# Altium integrated library NSC ADC.IntLib: 207 symbols (part 7 of 7)
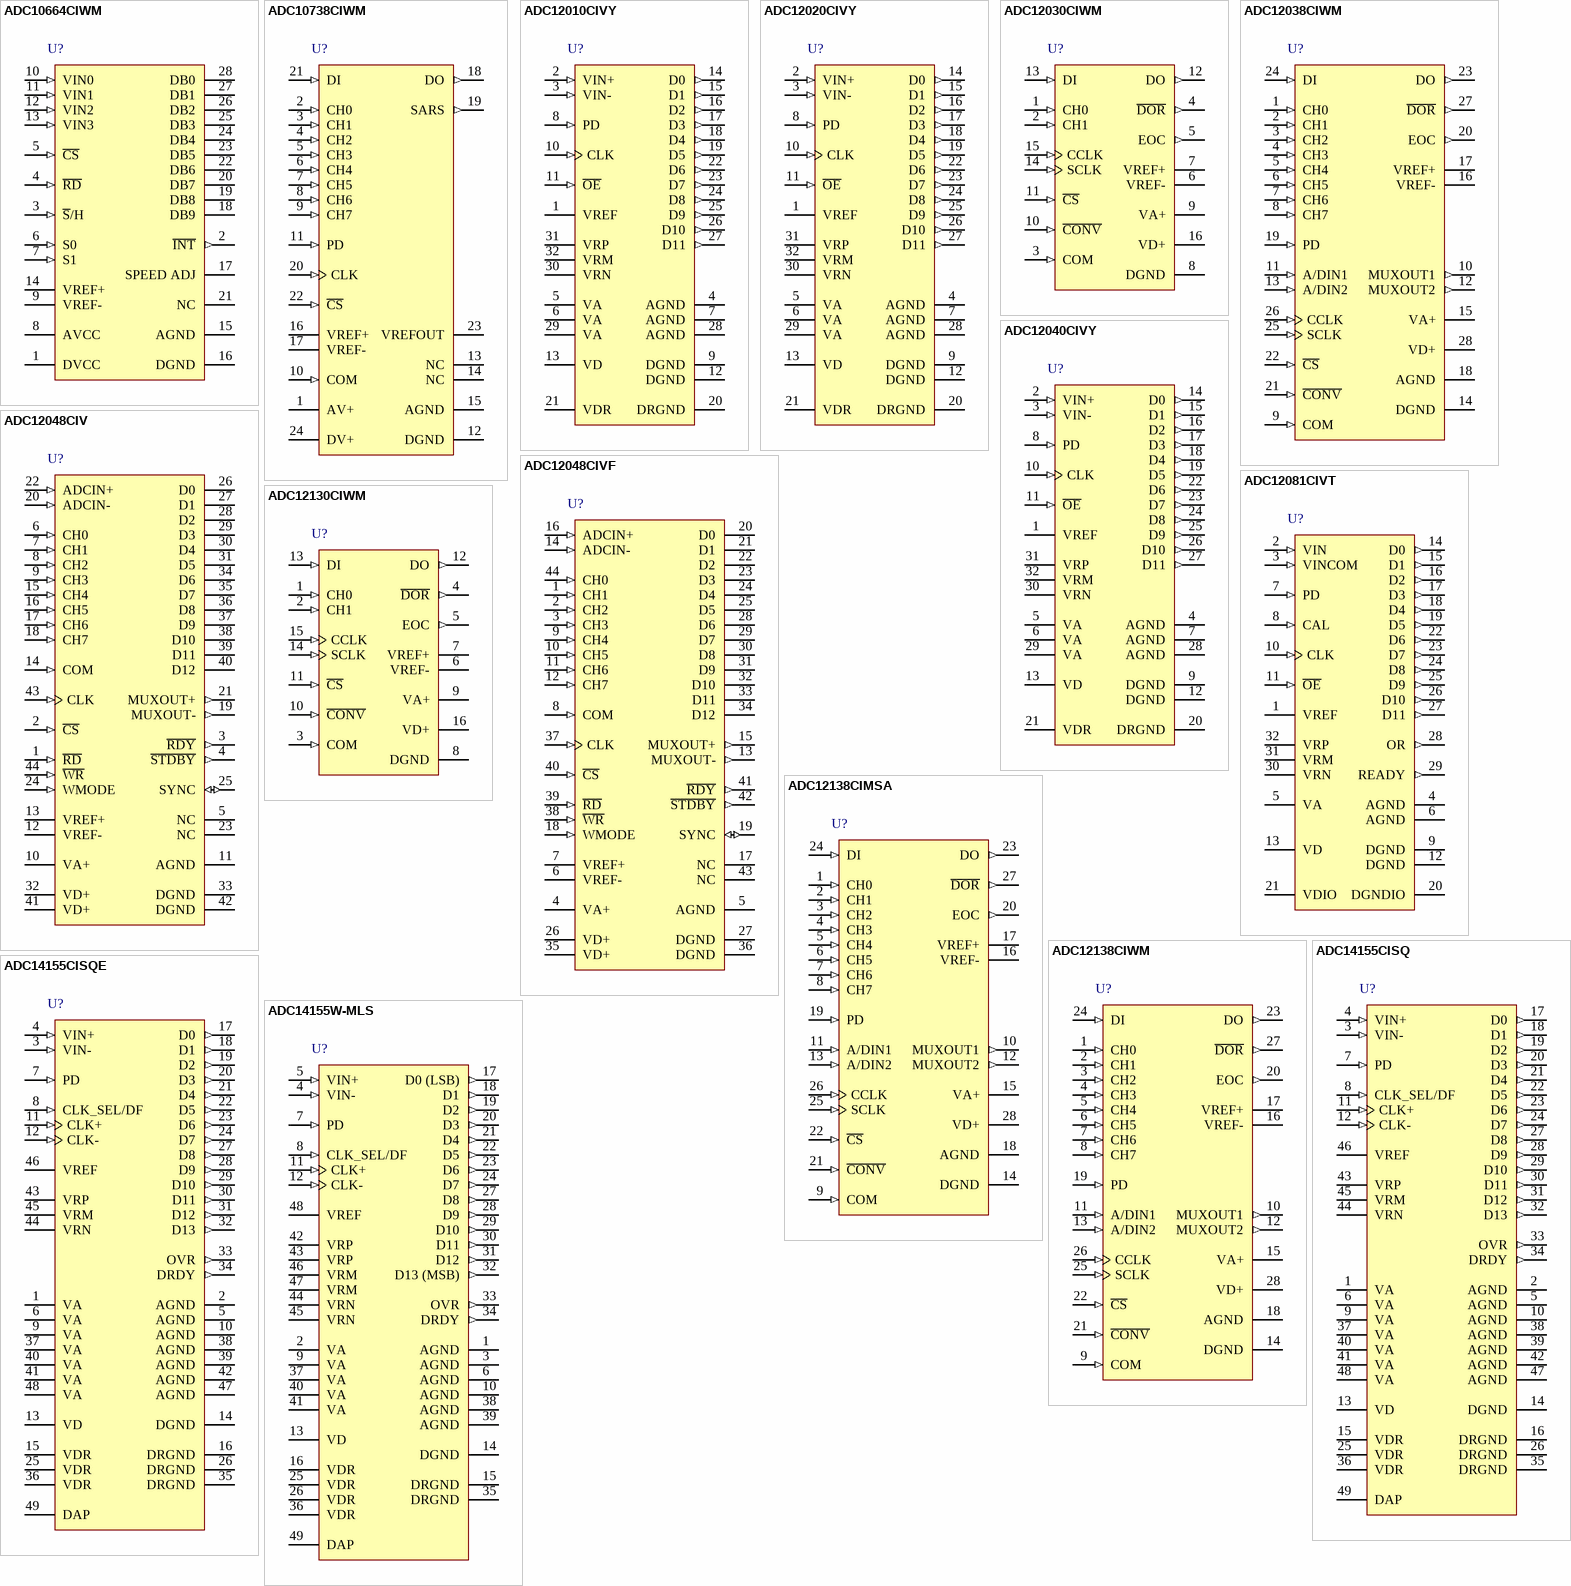
[diagram p23: symbols ADC10664CIWM to ADC14155W-MLS]

## ADC12138CIMSA
designator U?
Self-Calibrating 12-Bit Plus Sign Serial I/O A/D Converter with MUX and Sample/Hold; PartNumber: ADC12138CIMSA; Manufacturer: National Semiconductor; CompType: ADC IC; PackageTopMarking: NSUZXYTT*ADC12138*CIMSA; PowerWise: N; Published: 4-Dec-2008; DatasheetVersion: Apr-1995; PackageVersion: revB, Jan-2000; PackageReference: MSA28; Publisher: Altium Limited; PackageDescription: Molded SSOP, 5.3mm Body Width, 0.65mm Pitch, EIAJ, Type II, 28 Lead; RoHS: O; PinCount: 28; DigiKeyPartNumber: ADC12138CIMSA-ND; Code_IPC: SOP65P780-28; ComponentLink1Description: ADC12138 Datasheet; ComponentLink1URL: http://www.national.com/ds/AD/ADC12138.pdf; ComponentLink2Description: ADC12138 Web Page; ComponentLink2URL: http://www.national.com/pf/AD/ADC12138.html; ComponentLink3Description: MSA28 Package Page; ComponentLink3URL: http://www.national.com/packaging/folders/msa28.html
footprint MSA28_N (SOP, 28-Leads, Body 10.2x5.3mm, Pitch 0.65mm, IPC Medium Density)
footprint MSA28_L (SOP, 28-Leads, Body 10.2x5.3mm, Pitch 0.65mm, IPC High Density)
footprint MSA28_M (SOP, 28-Leads, Body 10.2x5.3mm, Pitch 0.65mm, IPC Low Density)
pins: 1 CH0 (in), 2 CH1 (in), 3 CH2 (in), 4 CH3 (in), 5 CH4 (in), 6 CH5 (in), 7 CH6 (in), 8 CH7 (in), 9 COM (in), 10 MUXOUT1 (out), 11 A/DIN1 (in), 12 MUXOUT2 (out), 13 A/DIN2 (in), 14 DGND (power), 15 VA+ (power), 16 VREF- (power), 17 VREF+ (power), 18 AGND (power), 19 PD (in), 20 EOC (out), 21 ~{CONV} (in), 22 ~{CS} (in), 23 DO (out), 24 DI (in), 25 SCLK (in), 26 CCLK (in), 27 ~{DOR} (out), 28 VD+ (power)

## ADC12138CIWM
designator U?
Self-Calibrating 12-Bit Plus Sign Serial I/O A/D Converter with MUX and Sample/Hold; PartNumber: ADC12138CIWM; Manufacturer: National Semiconductor; CompType: ADC IC; PackageTopMarking: NSUZXYTT*ADC12138*CIWM; PowerWise: N; Published: 4-Dec-2008; DatasheetVersion: Apr-1995; PackageVersion: revB, Nov-1997; PackageReference: M28B; Publisher: Altium Limited; PackageDescription: Molded Package, S.O., .300in Wide, 28 Lead; RoHS: O; PinCount: 28; DigiKeyPartNumber: ADC12138CIWM-ND; ComponentLink1Description: ADC12138 Datasheet; ComponentLink1URL: http://www.national.com/ds/AD/ADC12138.pdf; ComponentLink2Description: ADC12138 Web Page; ComponentLink2URL: http://www.national.com/pf/AD/ADC12138.html; ComponentLink3Description: M28B Package Page; ComponentLink3URL: http://www.national.com/packaging/folders/m28b.html
footprint M28B_N (SOIC, 28-Leads, Body 17.9x7.5mm, Pitch 1.27mm, IPC Medium Density)
footprint M28B_L (SOIC, 28-Leads, Body 17.9x7.5mm, Pitch 1.27mm, IPC High Density)
footprint M28B_M (SOIC, 28-Leads, Body 17.9x7.5mm, Pitch 1.27mm, IPC Low Density)
pins: 1 CH0 (in), 2 CH1 (in), 3 CH2 (in), 4 CH3 (in), 5 CH4 (in), 6 CH5 (in), 7 CH6 (in), 8 CH7 (in), 9 COM (in), 10 MUXOUT1 (out), 11 A/DIN1 (in), 12 MUXOUT2 (out), 13 A/DIN2 (in), 14 DGND (power), 15 VA+ (power), 16 VREF- (power), 17 VREF+ (power), 18 AGND (power), 19 PD (in), 20 EOC (out), 21 ~{CONV} (in), 22 ~{CS} (in), 23 DO (out), 24 DI (in), 25 SCLK (in), 26 CCLK (in), 27 ~{DOR} (out), 28 VD+ (power)

## ADC14155CISQ
designator U?
14-Bit, 155 MSPS, 1.1 GHz Bandwidth A/D Converter; PartNumber: ADC14155CISQ; Manufacturer: National Semiconductor; CompType: ADC IC; PackageTopMarking: NS*UZXYTT*14155SQ; PowerWise: Y; Published: 4-Dec-2008; DatasheetVersion: Jul-2006; PackageVersion: revA, May-2003; PackageReference: SQA48A; Publisher: Altium Limited; PackageDescription: LLP, Plastic, Quad, 7 x 7 x 0.8mm Body, 48 Lead, 0.5mm Pitch, No Pullback; RoHS: Y; PinCount: 48; DigiKeyPartNumber: ADC14155CISQCT-ND; Code_JEDEC: MO-220-WKKD-2; ComponentLink1Description: ADC14155 Datasheet; ComponentLink1URL: http://www.national.com/ds/AD/ADC14155.pdf; ComponentLink2Description: ADC14155 Web Page; ComponentLink2URL: http://www.national.com/pf/AD/ADC14155.html; ComponentLink3Description: SQA48A Package Page; ComponentLink3URL: http://www.national.com/packaging/folders/sqa48a.html
footprint SQA48A (QFN, 48-Leads, Body 7x7mm, Pitch 0.5mm, NSC Recommended)
pins: 1 VA (power), 2 AGND (power), 3 VIN- (in), 4 VIN+ (in), 5 AGND (power), 6 VA (power), 7 PD (in), 8 CLK_SEL/DF (in), 9 VA (power), 10 AGND (power), 11 CLK+ (in), 12 CLK- (in), 13 VD (power), 14 DGND (power), 15 VDR (power), 16 DRGND (power), 17 D0 (out), 18 D1 (out), 19 D2 (out), 20 D3 (out), 21 D4 (out), 22 D5 (out), 23 D6 (out), 24 D7 (out), 25 VDR (power), 26 DRGND (power), 27 D8 (out), 28 D9 (out), 29 D10 (out), 30 D11 (out), 31 D12 (out), 32 D13 (out), 33 OVR (out), 34 DRDY (out), 35 DRGND (power), 36 VDR (power), 37 VA (power), 38 AGND (power), 39 AGND (power), 40 VA (power), 41 VA (power), 42 AGND (power), 43 VRP, 44 VRN, 45 VRM, 46 VREF (power), 47 AGND (power), 48 VA (power), 49 DAP (power)

## ADC14155CISQE
designator U?
14-Bit, 155 MSPS, 1.1 GHz Bandwidth A/D Converter; PartNumber: ADC14155CISQE; Manufacturer: National Semiconductor; CompType: ADC IC; PackageTopMarking: NS*UZXYTT*14155SQE; Published: 4-Dec-2008; DatasheetVersion: Aug-2007; PackageVersion: revA, May-2003; PackageReference: SQA48A; Publisher: Altium Limited; PackageDescription: LLP, Plastic, Quad, 7 x 7 x 0.8mm Body, 48 Lead, 0.5mm Pitch, No Pullback; RoHS: N; PinCount: 48; Code_JEDEC: MO-220-WKKD-2; ComponentLink1Description: ADC14155 Datasheet; ComponentLink1URL: http://www.national.com/ds/AD/ADC14155.pdf; ComponentLink2Description: ADC14155 Web Page; ComponentLink2URL: http://www.national.com/pf/AD/ADC14155.html; ComponentLink3Description: SQA48A Package Page; ComponentLink3URL: http://www.national.com/packaging/folders/sqa48a.html
footprint SQA48A (QFN, 48-Leads, Body 7x7mm, Pitch 0.5mm, NSC Recommended)
pins: 1 VA (power), 2 AGND (power), 3 VIN- (in), 4 VIN+ (in), 5 AGND (power), 6 VA (power), 7 PD (in), 8 CLK_SEL/DF (in), 9 VA (power), 10 AGND (power), 11 CLK+ (in), 12 CLK- (in), 13 VD (power), 14 DGND (power), 15 VDR (power), 16 DRGND (power), 17 D0 (out), 18 D1 (out), 19 D2 (out), 20 D3 (out), 21 D4 (out), 22 D5 (out), 23 D6 (out), 24 D7 (out), 25 VDR (power), 26 DRGND (power), 27 D8 (out), 28 D9 (out), 29 D10 (out), 30 D11 (out), 31 D12 (out), 32 D13 (out), 33 OVR (out), 34 DRDY (out), 35 DRGND (power), 36 VDR (power), 37 VA (power), 38 AGND (power), 39 AGND (power), 40 VA (power), 41 VA (power), 42 AGND (power), 43 VRP, 44 VRN, 45 VRM, 46 VREF (power), 47 AGND (power), 48 VA (power), 49 DAP (power)

## ADC14155W-MLS
designator U?
14-Bit, 155 MSPS, 1.1 GHz Bandwidth A/D Converter; PartNumber: ADC14155W-MLS; Manufacturer: National Semiconductor; CompType: ADC IC; PackageTopMarking: NSZSSXXYYA*ADC14155W*-MLS; PowerWise: N; MilaeroCode: EXX; Published: 29-May-2009; DatasheetVersion: Nov-2008; PackageVersion: revB, Apr-2007; PackageReference: EL48A; Publisher: Altium Limited; PackageDescription: CQFP, 11.5 x 11.5 x 2.64mm, 48 Lead, 0.635mm Pitch; RoHS: N; PinCount: 48; ComponentLink1Description: ADC14155 Datasheet; ComponentLink1URL: http://www.national.com/ds/AD/ADC14155QML.pdf; ComponentLink2Description: ADC14155 Web Page; ComponentLink2URL: http://www.national.com/pf/AD/ADC14155.html; ComponentLink3Description: EL48A Package Page; ComponentLink3URL: http://www.national.com/packaging/folders/el48a.html
footprint EL48A_N (CQFP, 48-Leads, Body 11.5x11.5mm; Pitch 0.635mm, Gullwing Leadform, Exposed Pad, IPC Medium Density)
footprint EL48A_L (CQFP, 48-Leads, Body 11.5x11.5mm; Pitch 0.635mm, Gullwing Leadform, Exposed Pad, IPC High Density)
footprint EL48A_M (CQFP, 48-Leads, Body 11.5x11.5mm; Pitch 0.635mm, Gullwing Leadform, Exposed Pad, IPC Low Density)
pins: 1 AGND (power), 2 VA (power), 3 AGND (power), 4 VIN- (in), 5 VIN+ (in), 6 AGND (power), 7 PD (in), 8 CLK_SEL/DF (in), 9 VA (power), 10 AGND (power), 11 CLK+ (in), 12 CLK- (in), 13 VD (power), 14 DGND (power), 15 DRGND (power), 16 VDR (power), 17 D0 (LSB) (out), 18 D1 (out), 19 D2 (out), 20 D3 (out), 21 D4 (out), 22 D5 (out), 23 D6 (out), 24 D7 (out), 25 VDR (power), 26 VDR (power), 27 D8 (out), 28 D9 (out), 29 D10 (out), 30 D11 (out), 31 D12 (out), 32 D13 (MSB) (out), 33 OVR (out), 34 DRDY (out), 35 DRGND (power), 36 VDR (power), 37 VA (power), 38 AGND (power), 39 AGND (power), 40 VA (power), 41 VA (power), 42 VRP (power), 43 VRP, 44 VRN, 45 VRN, 46 VRM (power), 47 VRM (power), 48 VREF (power), 49 DAP (power)

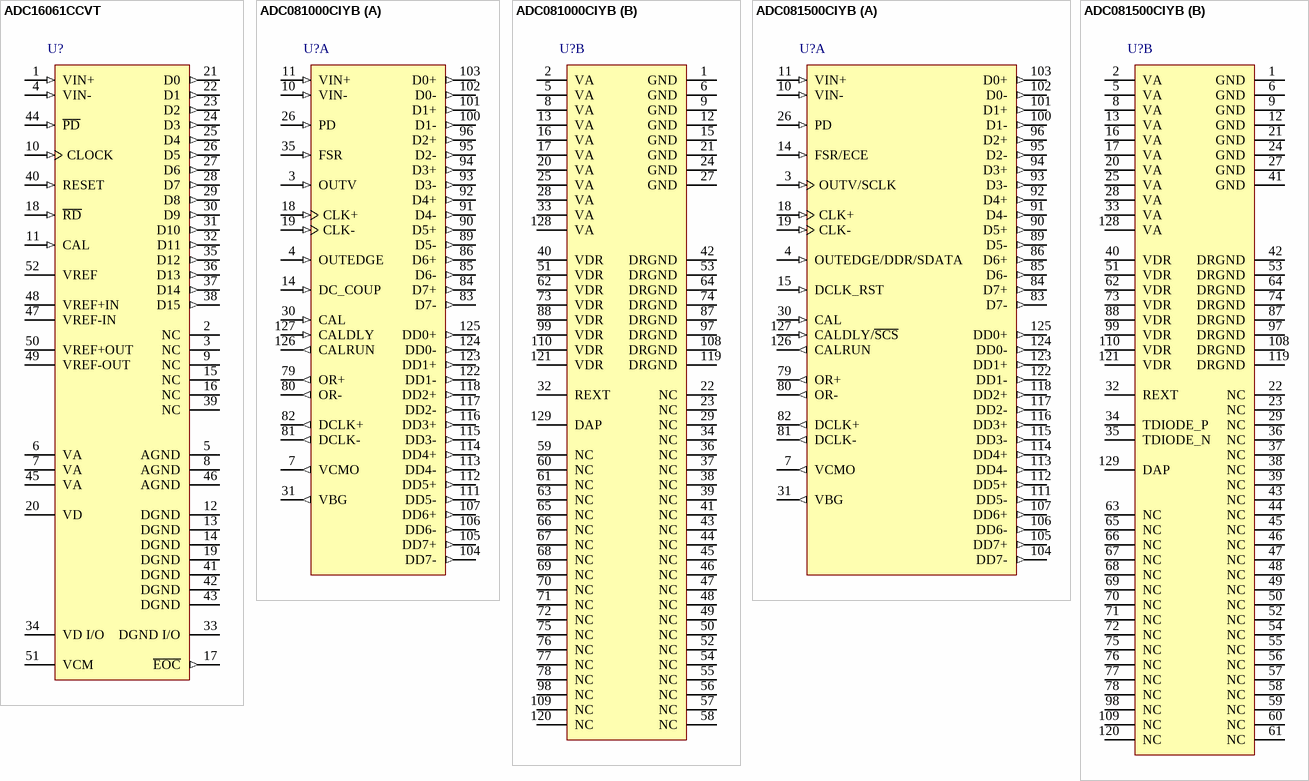
[diagram p14: symbols ADC16061CCVT to ADC081500CIYB]

## ADC16061CCVT
designator U?
Self-Calibrating 16-Bit, 2.5 MSPS, 390 mW A/D Converter; PartNumber: ADC16061CCVT; Manufacturer: National Semiconductor; CompType: ADC IC; PackageTopMarking: NSUZXYYTT*ADC16061*CCVT; PowerWise: N; Published: 4-Dec-2008; DatasheetVersion: Feb-2004; PackageVersion: revB, Dec-1999; PackageReference: VEG52A; Publisher: Altium Limited; PackageDescription: LQFP, Jedec, Metric, 10 x 10 x 1.4mm, 52 Lead; RoHS: Y; PinCount: 52; DigiKeyPartNumber: ADC16061CCVT-ND; Code_JEDEC: MS-026-BCC; ComponentLink1Description: ADC16061 Datasheet; ComponentLink1URL: http://www.national.com/ds/AD/ADC16061.pdf; ComponentLink2Description: ADC16061 Web Page; ComponentLink2URL: http://www.national.com/pf/AD/ADC16061.html; ComponentLink3Description: VEG52A Package Page; ComponentLink3URL: http://www.national.com/packaging/folders/veg52a.html
footprint VEG52A_N (Thin QFP, 52-Leads, Body 10 x 10mm, Pitch 0.65mm, IPC Medium Density)
footprint VEG52A_L (Thin QFP, 52-Leads, Body 10 x 10mm, Pitch 0.65mm, IPC High Density)
footprint VEG52A_M (Thin QFP, 52-Leads, Body 10 x 10mm, Pitch 0.65mm, IPC Low Density)
pins: 1 VIN+ (in), 2 NC, 3 NC, 4 VIN- (in), 5 AGND (power), 6 VA (power), 7 VA (power), 8 AGND (power), 9 NC, 10 CLOCK (in), 11 CAL (in), 12 DGND (power), 13 DGND (power), 14 DGND (power), 15 NC, 16 NC, 17 ~{EOC} (out), 18 ~{RD} (in), 19 DGND (power), 20 VD (power), 21 D0 (out), 22 D1 (out), 23 D2 (out), 24 D3 (out), 25 D4 (out), 26 D5 (out), 27 D6 (out), 28 D7 (out), 29 D8 (out), 30 D9 (out), 31 D10 (out), 32 D11 (out), 33 DGND I/O (power), 34 VD I/O (power), 35 D12 (out), 36 D13 (out), 37 D14 (out), 38 D15 (out), 39 NC, 40 RESET (in), 41 DGND (power), 42 DGND (power), 43 DGND (power), 44 ~{PD} (in), 45 VA (power), 46 AGND (power), 47 VREF-IN (power), 48 VREF+IN (power), 49 VREF-OUT (power), 50 VREF+OUT (power), 51 VCM (power), 52 VREF (power)

## ADC081000CIYB
designator U?
High Performance, Low Power 8-Bit, 1 GSPS A/D Converter; PartNumber: ADC081000CIYB; Manufacturer: National Semiconductor; CompType: ADC IC; PackageTopMarking: NSUZXYYTTE#*ADC081000*CIYB; PowerWise: Y; Published: 4-Dec-2008; DatasheetVersion: Jun-2004; PackageVersion: revB, Aug-2006; PackageReference: VNX128A; Publisher: Altium Limited; PackageDescription: LQFP, 20 x 20 x 1.4mm, 128 Lead, 0.5mm Pitch, Exposed Pad; RoHS: O; PinCount: 128; DigiKeyPartNumber: ADC081000CIYB-ND; Code_JEDEC: MS-026-BFB; ComponentLink1Description: ADC081000 Datasheet; ComponentLink1URL: http://www.national.com/ds/AD/ADC081000.pdf; ComponentLink2Description: ADC081000 Web Page; ComponentLink2URL: http://www.national.com/pf/AD/ADC081000.html; ComponentLink3Description: VNX128A Package Page; ComponentLink3URL: http://www.national.com/packaging/folders/vnx128a.html
footprint VNX128A_N (Thin QFP, 128-Leads, Body 20x20mm, Pitch 0.5mm, Exposed Pad, IPC Medium Density)
footprint VNX128A_L (Thin QFP, 128-Leads, Body 20x20mm, Pitch 0.5mm, Exposed Pad, IPC High Density)
footprint VNX128A_M (Thin QFP, 128-Leads, Body 20x20mm, Pitch 0.5mm, Exposed Pad, IPC Low Density)
part A pins: 3 OUTV (in), 4 OUTEDGE (in), 7 VCMO (out), 10 VIN- (in), 11 VIN+ (in), 14 DC_COUP (in), 18 CLK+ (in), 19 CLK- (in), 26 PD (in), 30 CAL (in), 31 VBG (out), 35 FSR (in), 79 OR+ (out), 80 OR- (out), 81 DCLK- (out), 82 DCLK+ (out), 83 D7- (out), 84 D7+ (out), 85 D6- (out), 86 D6+ (out), 89 D5- (out), 90 D5+ (out), 91 D4- (out), 92 D4+ (out), 93 D3- (out), 94 D3+ (out), 95 D2- (out), 96 D2+ (out), 100 D1- (out), 101 D1+ (out), 102 D0- (out), 103 D0+ (out), 104 DD7- (out), 105 DD7+ (out), 106 DD6- (out), 107 DD6+ (out), 111 DD5- (out), 112 DD5+ (out), 113 DD4- (out), 114 DD4+ (out), 115 DD3- (out), 116 DD3+ (out), 117 DD2- (out), 118 DD2+ (out), 122 DD1- (out), 123 DD1+ (out), 124 DD0- (out), 125 DD0+ (out), 126 CALRUN (out), 127 CALDLY (in)
part B pins: 1 GND (power), 2 VA (power), 5 VA (power), 6 GND (power), 8 VA (power), 9 GND (power), 12 GND (power), 13 VA (power), 15 GND (power), 16 VA (power), 17 VA (power), 20 VA (power), 21 GND (power), 22 NC, 23 NC, 24 GND (power), 25 VA (power), 27 GND (power), 28 VA (power), 29 NC, 32 REXT, 33 VA (power), 34 NC, 36 NC, 37 NC, 38 NC, 39 NC, 40 VDR (power), 41 NC, 42 DRGND (power), 43 NC, 44 NC, 45 NC, 46 NC, 47 NC, 48 NC, 49 NC, 50 NC, 51 VDR (power), 52 NC, 53 DRGND (power), 54 NC, 55 NC, 56 NC, 57 NC, 58 NC, 59 NC, 60 NC, 61 NC, 62 VDR (power), 63 NC, 64 DRGND (power), 65 NC, 66 NC, 67 NC, 68 NC, 69 NC, 70 NC, 71 NC, 72 NC, 73 VDR (power), 74 DRGND (power), 75 NC, 76 NC, 77 NC, 78 NC, 87 DRGND (power), 88 VDR (power), 97 DRGND (power), 98 NC, 99 VDR (power), 108 DRGND (power), 109 NC, 110 VDR (power), 119 DRGND (power), 120 NC, 121 VDR (power), 128 VA (power), 129 DAP (power)

## ADC081500CIYB
designator U?
High Performance, Low Power, 8-Bit, 1.5 GSPS A/D Converter; PartNumber: ADC081500CIYB; Manufacturer: National Semiconductor; CompType: ADC IC; PackageTopMarking: NSUZXYYTTE#*ADC081500*CIYB; PowerWise: Y; Published: 4-Dec-2008; DatasheetVersion: Sep-2005; PackageVersion: revB, Aug-2006; PackageReference: VNX128A; Publisher: Altium Limited; PackageDescription: LQFP, 20 x 20 x 1.4mm, 128 Lead, 0.5mm Pitch, Exposed Pad; RoHS: O; PinCount: 128; DigiKeyPartNumber: ADC081500CIYB-ND; Code_JEDEC: MS-026-BFB; ComponentLink1Description: ADC081500 Datasheet; ComponentLink1URL: http://www.national.com/ds/AD/ADC081500.pdf; ComponentLink2Description: ADC081500 Web Page; ComponentLink2URL: http://www.national.com/pf/AD/ADC081500.html; ComponentLink3Description: VNX128A Package Page; ComponentLink3URL: http://www.national.com/packaging/folders/vnx128a.html
footprint VNX128A_N (Thin QFP, 128-Leads, Body 20x20mm, Pitch 0.5mm, Exposed Pad, IPC Medium Density)
footprint VNX128A_L (Thin QFP, 128-Leads, Body 20x20mm, Pitch 0.5mm, Exposed Pad, IPC High Density)
footprint VNX128A_M (Thin QFP, 128-Leads, Body 20x20mm, Pitch 0.5mm, Exposed Pad, IPC Low Density)
part A pins: 3 OUTV/SCLK (in), 4 OUTEDGE/DDR/SDATA (in), 7 VCMO (out), 10 VIN- (in), 11 VIN+ (in), 14 FSR/ECE (in), 15 DCLK_RST (in), 18 CLK+ (in), 19 CLK- (in), 26 PD (in), 30 CAL (in), 31 VBG (out), 79 OR+ (out), 80 OR- (out), 81 DCLK- (out), 82 DCLK+ (out), 83 D7- (out), 84 D7+ (out), 85 D6- (out), 86 D6+ (out), 89 D5- (out), 90 D5+ (out), 91 D4- (out), 92 D4+ (out), 93 D3- (out), 94 D3+ (out), 95 D2- (out), 96 D2+ (out), 100 D1- (out), 101 D1+ (out), 102 D0- (out), 103 D0+ (out), 104 DD7- (out), 105 DD7+ (out), 106 DD6- (out), 107 DD6+ (out), 111 DD5- (out), 112 DD5+ (out), 113 DD4- (out), 114 DD4+ (out), 115 DD3- (out), 116 DD3+ (out), 117 DD2- (out), 118 DD2+ (out), 122 DD1- (out), 123 DD1+ (out), 124 DD0- (out), 125 DD0+ (out), 126 CALRUN (out), 127 CALDLY/~{SCS} (in)
part B pins: 1 GND (power), 2 VA (power), 5 VA (power), 6 GND (power), 8 VA (power), 9 GND (power), 12 GND (power), 13 VA (power), 16 VA (power), 17 VA (power), 20 VA (power), 21 GND (power), 22 NC, 23 NC, 24 GND (power), 25 VA (power), 27 GND (power), 28 VA (power), 29 NC, 32 REXT, 33 VA (power), 34 TDIODE_P, 35 TDIODE_N, 36 NC, 37 NC, 38 NC, 39 NC, 40 VDR (power), 41 GND (power), 42 DRGND (power), 43 NC, 44 NC, 45 NC, 46 NC, 47 NC, 48 NC, 49 NC, 50 NC, 51 VDR (power), 52 NC, 53 DRGND (power), 54 NC, 55 NC, 56 NC, 57 NC, 58 NC, 59 NC, 60 NC, 61 NC, 62 VDR (power), 63 NC, 64 DRGND (power), 65 NC, 66 NC, 67 NC, 68 NC, 69 NC, 70 NC, 71 NC, 72 NC, 73 VDR (power), 74 DRGND (power), 75 NC, 76 NC, 77 NC, 78 NC, 87 DRGND (power), 88 VDR (power), 97 DRGND (power), 98 NC, 99 VDR (power), 108 DRGND (power), 109 NC, 110 VDR (power), 119 DRGND (power), 120 NC, 121 VDR (power), 128 VA (power), 129 DAP (power)

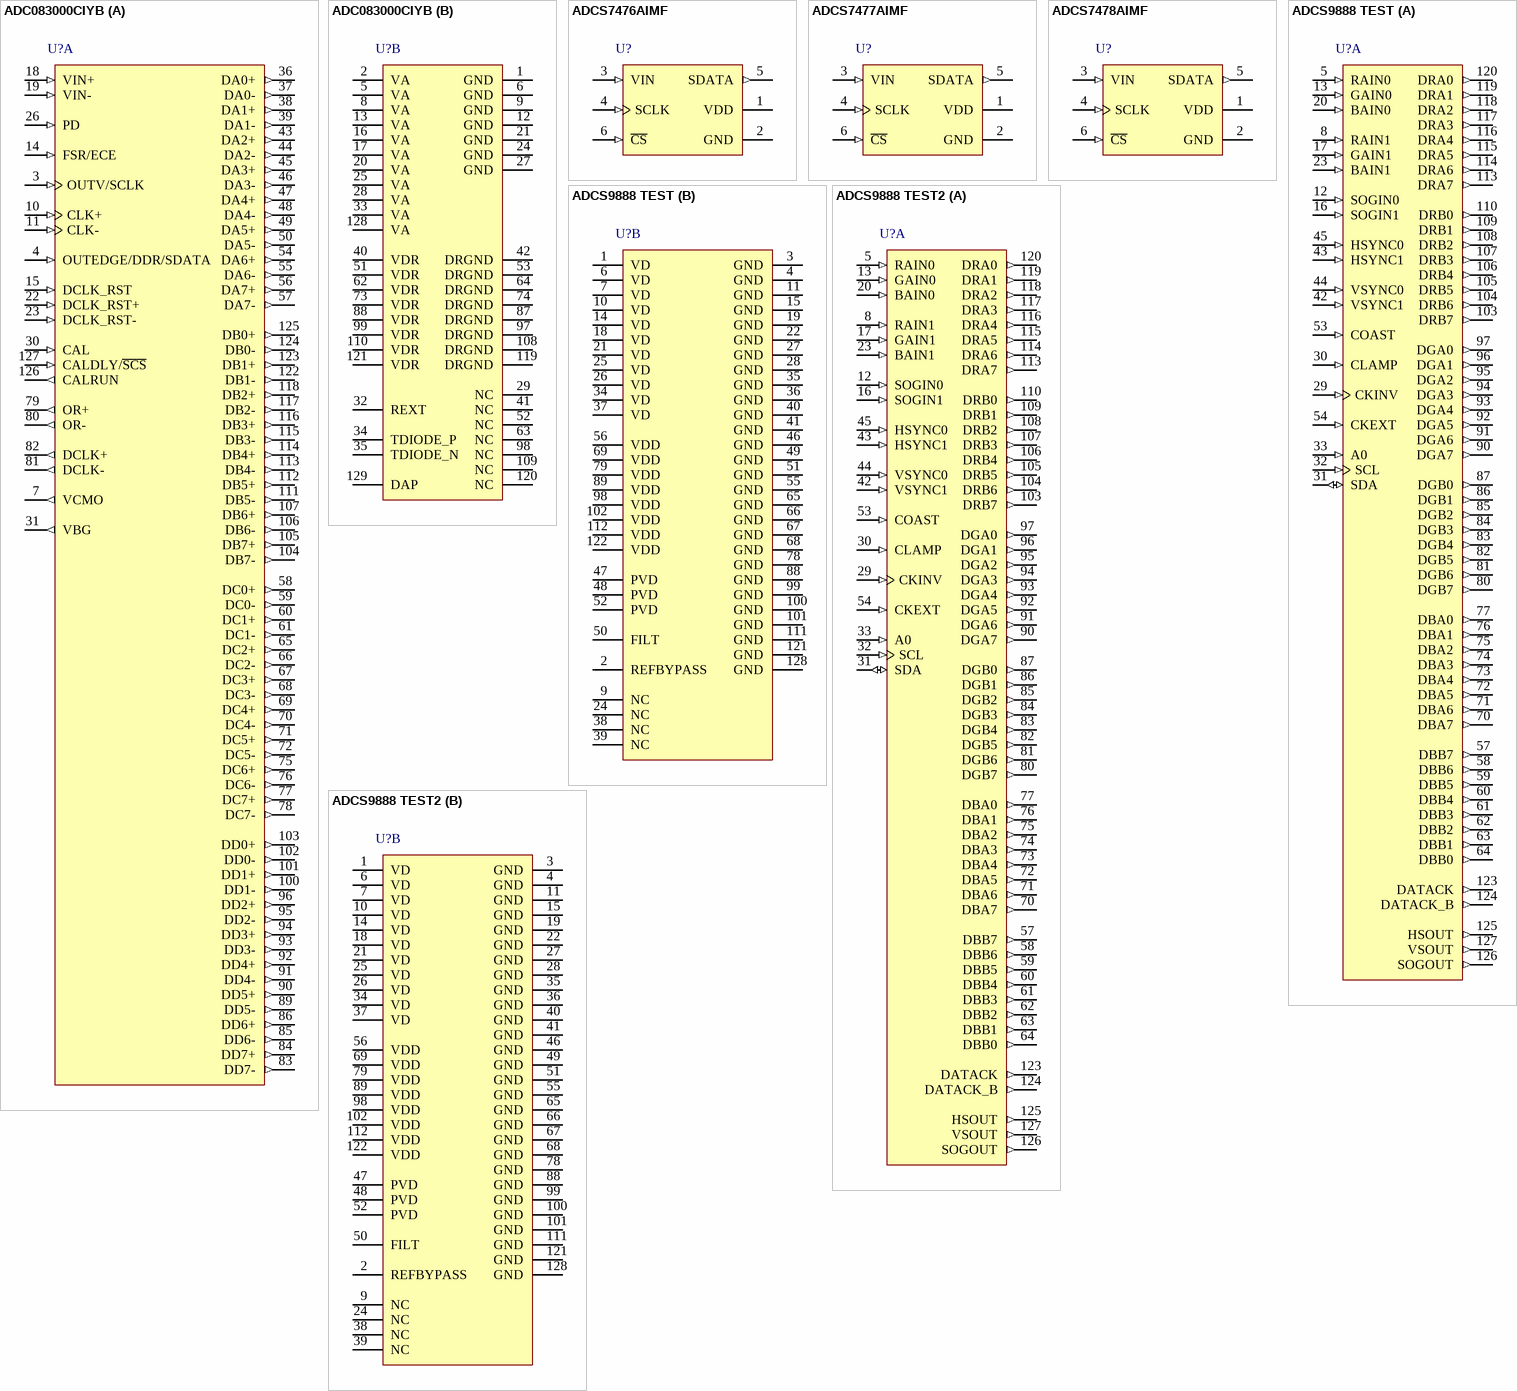
[diagram p15: symbols ADC083000CIYB to ADCS9888 TEST2]

## ADC083000CIYB
designator U?
8-Bit, 3 GSPS, High Performance, Low Power A/D Converter; PartNumber: ADC083000CIYB; Manufacturer: National Semiconductor; CompType: ADC IC; PackageTopMarking: NSUZXYYTTE#*ADC083000CIYB; PowerWise: Y; Published: 4-Dec-2008; DatasheetVersion: Jun-2007; PackageVersion: revB, Aug-2006; PackageReference: VNX128A; Publisher: Altium Limited; PackageDescription: LQFP, 20 x 20 x 1.4mm, 128 Lead, 0.5mm Pitch, Exposed Pad; RoHS: O; PinCount: 128; DigiKeyPartNumber: ADC083000CIYB-ND; Code_JEDEC: MS-026-BFB; ComponentLink1Description: ADC083000 Datasheet; ComponentLink1URL: http://www.national.com/ds/AD/ADC083000.pdf; ComponentLink2Description: ADC083000 Web Page; ComponentLink2URL: http://www.national.com/pf/AD/ADC083000.html; ComponentLink3Description: VNX128A Package Page; ComponentLink3URL: http://www.national.com/packaging/folders/vnx128a.html
footprint VNX128A_N (Thin QFP, 128-Leads, Body 20x20mm, Pitch 0.5mm, Exposed Pad, IPC Medium Density)
footprint VNX128A_L (Thin QFP, 128-Leads, Body 20x20mm, Pitch 0.5mm, Exposed Pad, IPC High Density)
footprint VNX128A_M (Thin QFP, 128-Leads, Body 20x20mm, Pitch 0.5mm, Exposed Pad, IPC Low Density)
part A pins: 3 OUTV/SCLK (in), 4 OUTEDGE/DDR/SDATA (in), 7 VCMO (out), 10 CLK+ (in), 11 CLK- (in), 14 FSR/ECE (in), 15 DCLK_RST (in), 18 VIN+ (in), 19 VIN- (in), 22 DCLK_RST+ (in), 23 DCLK_RST- (in), 26 PD (in), 30 CAL (in), 31 VBG (out), 36 DA0+ (out), 37 DA0- (out), 38 DA1+ (out), 39 DA1- (out), 43 DA2+ (out), 44 DA2- (out), 45 DA3+ (out), 46 DA3- (out), 47 DA4+ (out), 48 DA4- (out), 49 DA5+ (out), 50 DA5- (out), 54 DA6+ (out), 55 DA6- (out), 56 DA7+ (out), 57 DA7- (out), 58 DC0+ (out), 59 DC0- (out), 60 DC1+ (out), 61 DC1- (out), 65 DC2+ (out), 66 DC2- (out), 67 DC3+ (out), 68 DC3- (out), 69 DC4+ (out), 70 DC4- (out), 71 DC5+ (out), 72 DC5- (out), 75 DC6+ (out), 76 DC6- (out), 77 DC7+ (out), 78 DC7- (out), 79 OR+ (out), 80 OR- (out), 81 DCLK- (out), 82 DCLK+ (out), 83 DD7- (out), 84 DD7+ (out), 85 DD6- (out), 86 DD6+ (out), 89 DD5- (out), 90 DD5+ (out), 91 DD4- (out), 92 DD4+ (out), 93 DD3- (out), 94 DD3+ (out), 95 DD2- (out), 96 DD2+ (out), 100 DD1- (out), 101 DD1+ (out), 102 DD0- (out), 103 DD0+ (out), 104 DB7- (out), 105 DB7+ (out), 106 DB6- (out), 107 DB6+ (out), 111 DB5- (out), 112 DB5+ (out), 113 DB4- (out), 114 DB4+ (out), 115 DB3- (out), 116 DB3+ (out), 117 DB2- (out), 118 DB2+ (out), 122 DB1- (out), 123 DB1+ (out), 124 DB0- (out), 125 DB0+ (out), 126 CALRUN (out), 127 CALDLY/~{SCS} (in)
part B pins: 1 GND (power), 2 VA (power), 5 VA (power), 6 GND (power), 8 VA (power), 9 GND (power), 12 GND (power), 13 VA (power), 16 VA (power), 17 VA (power), 20 VA (power), 21 GND (power), 24 GND (power), 25 VA (power), 27 GND (power), 28 VA (power), 29 NC, 32 REXT, 33 VA (power), 34 TDIODE_P, 35 TDIODE_N, 40 VDR (power), 41 NC, 42 DRGND (power), 51 VDR (power), 52 NC, 53 DRGND (power), 62 VDR (power), 63 NC, 64 DRGND (power), 73 VDR (power), 74 DRGND (power), 87 DRGND (power), 88 VDR (power), 97 DRGND (power), 98 NC, 99 VDR (power), 108 DRGND (power), 109 NC, 110 VDR (power), 119 DRGND (power), 120 NC, 121 VDR (power), 128 VA (power), 129 DAP (power)

## ADCS7476AIMF
designator U?
1MSPS, 12-/10-/8-Bit A/D Converters in SOT-23 & LLP; PartNumber: ADCS7476AIMF; Manufacturer: National Semiconductor; CompType: ADC IC; PackageTopMarking: X01A*XTT; PowerWise: N; Published: 4-Dec-2008; DatasheetVersion: Apr-2003; PackageVersion: revC, Sep-2005; PackageReference: MF06A; Publisher: Altium Limited; PackageDescription: Molded SOT-23, .115 x .063 x .040in Body, 6 Lead, .0375in in Pitch; RoHS: O; PinCount: 6; DigiKeyPartNumber: ADCS7476AIMFCT-ND; Code_JEDEC: MO-178-AB; Code_IPC: SOT26A-6; ComponentLink1Description: ADCS7476 Datasheet; ComponentLink1URL: http://www.national.com/ds/AD/ADCS7476.pdf; ComponentLink2Description: ADCS7476 Web Page; ComponentLink2URL: http://www.national.com/pf/AD/ADCS7476.html; ComponentLink3Description: MF06A Package Page; ComponentLink3URL: http://www.national.com/packaging/folders/mf06a.html
footprint MF06A_N (SOT23, 6-Leads, Body 2.9x1.6mm, Pitch 0.95mm, Lead Span 2.8mm, IPC Medium Density)
footprint MF06A_L (SOT23, 6-Leads, Body 2.9x1.6mm, Pitch 0.95mm, Lead Span 2.8mm, IPC High Density)
footprint MF06A_M (SOT23, 6-Leads, Body 2.9x1.6mm, Pitch 0.95mm, Lead Span 2.8mm, IPC Low Density)
pins: 1 VDD (power), 2 GND (power), 3 VIN (in), 4 SCLK (in), 5 SDATA (out), 6 ~{CS} (in)

## ADCS7477AIMF
designator U?
1MSPS, 12-/10-/8-Bit A/D Converters in SOT-23 & LLP; PartNumber: ADCS7477AIMF; Manufacturer: National Semiconductor; CompType: ADC IC; PackageTopMarking: X02A*XTT; PowerWise: N; Published: 4-Dec-2008; DatasheetVersion: May-2003; PackageVersion: revC, Sep-2005; PackageReference: MF06A; Publisher: Altium Limited; PackageDescription: Molded SOT-23, .115 x .063 x .040in Body, 6 Lead, .0375in in Pitch; RoHS: Y; PinCount: 6; DigiKeyPartNumber: ADCS7477AIMFCT-ND; Code_JEDEC: MO-178-AB; Code_IPC: SOT26A-6; ComponentLink1Description: ADCS7477 Datasheet; ComponentLink1URL: http://www.national.com/ds/AD/ADCS7477.pdf; ComponentLink2Description: ADCS7477 Web Page; ComponentLink2URL: http://www.national.com/pf/AD/ADCS7477.html; ComponentLink3Description: MF06A Package Page; ComponentLink3URL: http://www.national.com/packaging/folders/mf06a.html
footprint MF06A_N (SOT23, 6-Leads, Body 2.9x1.6mm, Pitch 0.95mm, Lead Span 2.8mm, IPC Medium Density)
footprint MF06A_L (SOT23, 6-Leads, Body 2.9x1.6mm, Pitch 0.95mm, Lead Span 2.8mm, IPC High Density)
footprint MF06A_M (SOT23, 6-Leads, Body 2.9x1.6mm, Pitch 0.95mm, Lead Span 2.8mm, IPC Low Density)
pins: 1 VDD (power), 2 GND (power), 3 VIN (in), 4 SCLK (in), 5 SDATA (out), 6 ~{CS} (in)

## ADCS7478AIMF
designator U?
1MSPS, 12-/10-/8-Bit A/D Converters in SOT-23 & LLP; PartNumber: ADCS7478AIMF; Manufacturer: National Semiconductor; CompType: ADC IC; PackageTopMarking: X03A*XTT; PowerWise: N; Published: 4-Dec-2008; DatasheetVersion: May-2003; PackageVersion: revC, Sep-2005; PackageReference: MF06A; Publisher: Altium Limited; PackageDescription: Molded SOT-23, .115 x .063 x .040in Body, 6 Lead, .0375in in Pitch; RoHS: O; PinCount: 6; DigiKeyPartNumber: ADCS7478AIMFCT-ND; Code_JEDEC: MO-178-AB; Code_IPC: SOT26A-6; ComponentLink1Description: ADCS7478 Datasheet; ComponentLink1URL: http://www.national.com/ds/AD/ADCS7478.pdf; ComponentLink2Description: ADCS7478 Web Page; ComponentLink2URL: http://www.national.com/pf/AD/ADCS7478.html; ComponentLink3Description: MF06A Package Page; ComponentLink3URL: http://www.national.com/packaging/folders/mf06a.html
footprint MF06A_N (SOT23, 6-Leads, Body 2.9x1.6mm, Pitch 0.95mm, Lead Span 2.8mm, IPC Medium Density)
footprint MF06A_L (SOT23, 6-Leads, Body 2.9x1.6mm, Pitch 0.95mm, Lead Span 2.8mm, IPC High Density)
footprint MF06A_M (SOT23, 6-Leads, Body 2.9x1.6mm, Pitch 0.95mm, Lead Span 2.8mm, IPC Low Density)
pins: 1 VDD (power), 2 GND (power), 3 VIN (in), 4 SCLK (in), 5 SDATA (out), 6 ~{CS} (in)

## ADCS9888 TEST
designator U?
205/170/140 MSPS Video Analog Front End; PartNumber: ADCS9888 TEST; Manufacturer: National Semiconductor; CompType: ADC IC; PackageTopMarking: NSUZXYYTTE#*ADCS9888 TEST; PowerWise: N; Published: 4-Dec-2008; DatasheetVersion: Jun-2007; PackageVersion: revC, Jun-1998; PackageReference: VLA128A; Publisher: Altium Limited; PackageDescription: PQFP, (S), 14 x 20 x 2.7mm, 128 Lead; RoHS: N; PinCount: 128; ComponentLink1Description: ADCS9888 Datasheet; ComponentLink1URL: http://www.national.com/ds/AD/ADCS9888.pdf; ComponentLink2Description: ADCS9888 Web Page; ComponentLink2URL: http://www.national.com/pf/AD/ADCS9888.html; ComponentLink3Description: VLA128A Package Page; ComponentLink3URL: http://www.national.com/packaging/folders/vla128a.html
footprint VLA128A_N (Shrink QFP, 128-Leads, Body 20x14 mm, Pitch 0.5mm, IPC Medium Density)
footprint VLA128A_L (Shrink QFP, 128-Leads, Body 20x14 mm, Pitch 0.5mm, IPC High Density)
footprint VLA128A_M (Shrink QFP, 128-Leads, Body 20x14 mm, Pitch 0.5mm, IPC Low Density)
part A pins: 5 RAIN0 (in), 8 RAIN1 (in), 12 SOGIN0 (in), 13 GAIN0 (in), 16 SOGIN1 (in), 17 GAIN1 (in), 20 BAIN0 (in), 23 BAIN1 (in), 29 CKINV (in), 30 CLAMP (in), 31 SDA (io), 32 SCL (in), 33 A0 (in), 42 VSYNC1 (in), 43 HSYNC1 (in), 44 VSYNC0 (in), 45 HSYNC0 (in), 53 COAST (in), 54 CKEXT (in), 57 DBB7 (out), 58 DBB6 (out), 59 DBB5 (out), 60 DBB4 (out), 61 DBB3 (out), 62 DBB2 (out), 63 DBB1 (out), 64 DBB0 (out), 70 DBA7 (out), 71 DBA6 (out), 72 DBA5 (out), 73 DBA4 (out), 74 DBA3 (out), 75 DBA2 (out), 76 DBA1 (out), 77 DBA0 (out), 80 DGB7 (out), 81 DGB6 (out), 82 DGB5 (out), 83 DGB4 (out), 84 DGB3 (out), 85 DGB2 (out), 86 DGB1 (out), 87 DGB0 (out), 90 DGA7 (out), 91 DGA6 (out), 92 DGA5 (out), 93 DGA4 (out), 94 DGA3 (out), 95 DGA2 (out), 96 DGA1 (out), 97 DGA0 (out), 103 DRB7 (out), 104 DRB6 (out), 105 DRB5 (out), 106 DRB4 (out), 107 DRB3 (out), 108 DRB2 (out), 109 DRB1 (out), 110 DRB0 (out), 113 DRA7 (out), 114 DRA6 (out), 115 DRA5 (out), 116 DRA4 (out), 117 DRA3 (out), 118 DRA2 (out), 119 DRA1 (out), 120 DRA0 (out), 123 DATACK (out), 124 DATACK_B (out), 125 HSOUT (out), 126 SOGOUT (out), 127 VSOUT (out)
part B pins: 1 VD (power), 2 REFBYPASS, 3 GND (power), 4 GND (power), 6 VD (power), 7 VD (power), 9 NC, 10 VD (power), 11 GND (power), 14 VD (power), 15 GND (power), 18 VD (power), 19 GND (power), 21 VD (power), 22 GND (power), 24 NC, 25 VD (power), 26 VD (power), 27 GND (power), 28 GND (power), 34 VD (power), 35 GND (power), 36 GND (power), 37 VD (power), 38 NC, 39 NC, 40 GND (power), 41 GND (power), 46 GND (power), 47 PVD (power), 48 PVD (power), 49 GND (power), 50 FILT, 51 GND (power), 52 PVD (power), 55 GND (power), 56 VDD (power), 65 GND (power), 66 GND (power), 67 GND (power), 68 GND (power), 69 VDD (power), 78 GND (power), 79 VDD (power), 88 GND (power), 89 VDD (power), 98 VDD (power), 99 GND (power), 100 GND (power), 101 GND (power), 102 VDD (power), 111 GND (power), 112 VDD (power), 121 GND (power), 122 VDD (power), 128 GND (power)

## ADCS9888 TEST2
designator U?
205/170/140 MSPS Video Analog Front End; PartNumber: ADCS9888 TEST2; Manufacturer: National Semiconductor; CompType: ADC IC; PackageTopMarking: NSUZXYYTTE#*ADCS9888 TEST2; PowerWise: N; Published: 4-Dec-2008; DatasheetVersion: Jun-2007; PackageVersion: revC, Jun-1998; PackageReference: VLA128A; Publisher: Altium Limited; PackageDescription: PQFP, (S), 14 x 20 x 2.7mm, 128 Lead; RoHS: N; PinCount: 128; ComponentLink1Description: ADCS9888 Datasheet; ComponentLink1URL: http://www.national.com/ds/AD/ADCS9888.pdf; ComponentLink2Description: ADCS9888 Web Page; ComponentLink2URL: http://www.national.com/pf/AD/ADCS9888.html; ComponentLink3Description: VLA128A Package Page; ComponentLink3URL: http://www.national.com/packaging/folders/vla128a.html
footprint VLA128A_N (Shrink QFP, 128-Leads, Body 20x14 mm, Pitch 0.5mm, IPC Medium Density)
footprint VLA128A_L (Shrink QFP, 128-Leads, Body 20x14 mm, Pitch 0.5mm, IPC High Density)
footprint VLA128A_M (Shrink QFP, 128-Leads, Body 20x14 mm, Pitch 0.5mm, IPC Low Density)
part A pins: 5 RAIN0 (in), 8 RAIN1 (in), 12 SOGIN0 (in), 13 GAIN0 (in), 16 SOGIN1 (in), 17 GAIN1 (in), 20 BAIN0 (in), 23 BAIN1 (in), 29 CKINV (in), 30 CLAMP (in), 31 SDA (io), 32 SCL (in), 33 A0 (in), 42 VSYNC1 (in), 43 HSYNC1 (in), 44 VSYNC0 (in), 45 HSYNC0 (in), 53 COAST (in), 54 CKEXT (in), 57 DBB7 (out), 58 DBB6 (out), 59 DBB5 (out), 60 DBB4 (out), 61 DBB3 (out), 62 DBB2 (out), 63 DBB1 (out), 64 DBB0 (out), 70 DBA7 (out), 71 DBA6 (out), 72 DBA5 (out), 73 DBA4 (out), 74 DBA3 (out), 75 DBA2 (out), 76 DBA1 (out), 77 DBA0 (out), 80 DGB7 (out), 81 DGB6 (out), 82 DGB5 (out), 83 DGB4 (out), 84 DGB3 (out), 85 DGB2 (out), 86 DGB1 (out), 87 DGB0 (out), 90 DGA7 (out), 91 DGA6 (out), 92 DGA5 (out), 93 DGA4 (out), 94 DGA3 (out), 95 DGA2 (out), 96 DGA1 (out), 97 DGA0 (out), 103 DRB7 (out), 104 DRB6 (out), 105 DRB5 (out), 106 DRB4 (out), 107 DRB3 (out), 108 DRB2 (out), 109 DRB1 (out), 110 DRB0 (out), 113 DRA7 (out), 114 DRA6 (out), 115 DRA5 (out), 116 DRA4 (out), 117 DRA3 (out), 118 DRA2 (out), 119 DRA1 (out), 120 DRA0 (out), 123 DATACK (out), 124 DATACK_B (out), 125 HSOUT (out), 126 SOGOUT (out), 127 VSOUT (out)
part B pins: 1 VD (power), 2 REFBYPASS, 3 GND (power), 4 GND (power), 6 VD (power), 7 VD (power), 9 NC, 10 VD (power), 11 GND (power), 14 VD (power), 15 GND (power), 18 VD (power), 19 GND (power), 21 VD (power), 22 GND (power), 24 NC, 25 VD (power), 26 VD (power), 27 GND (power), 28 GND (power), 34 VD (power), 35 GND (power), 36 GND (power), 37 VD (power), 38 NC, 39 NC, 40 GND (power), 41 GND (power), 46 GND (power), 47 PVD (power), 48 PVD (power), 49 GND (power), 50 FILT, 51 GND (power), 52 PVD (power), 55 GND (power), 56 VDD (power), 65 GND (power), 66 GND (power), 67 GND (power), 68 GND (power), 69 VDD (power), 78 GND (power), 79 VDD (power), 88 GND (power), 89 VDD (power), 98 VDD (power), 99 GND (power), 100 GND (power), 101 GND (power), 102 VDD (power), 111 GND (power), 112 VDD (power), 121 GND (power), 122 VDD (power), 128 GND (power)

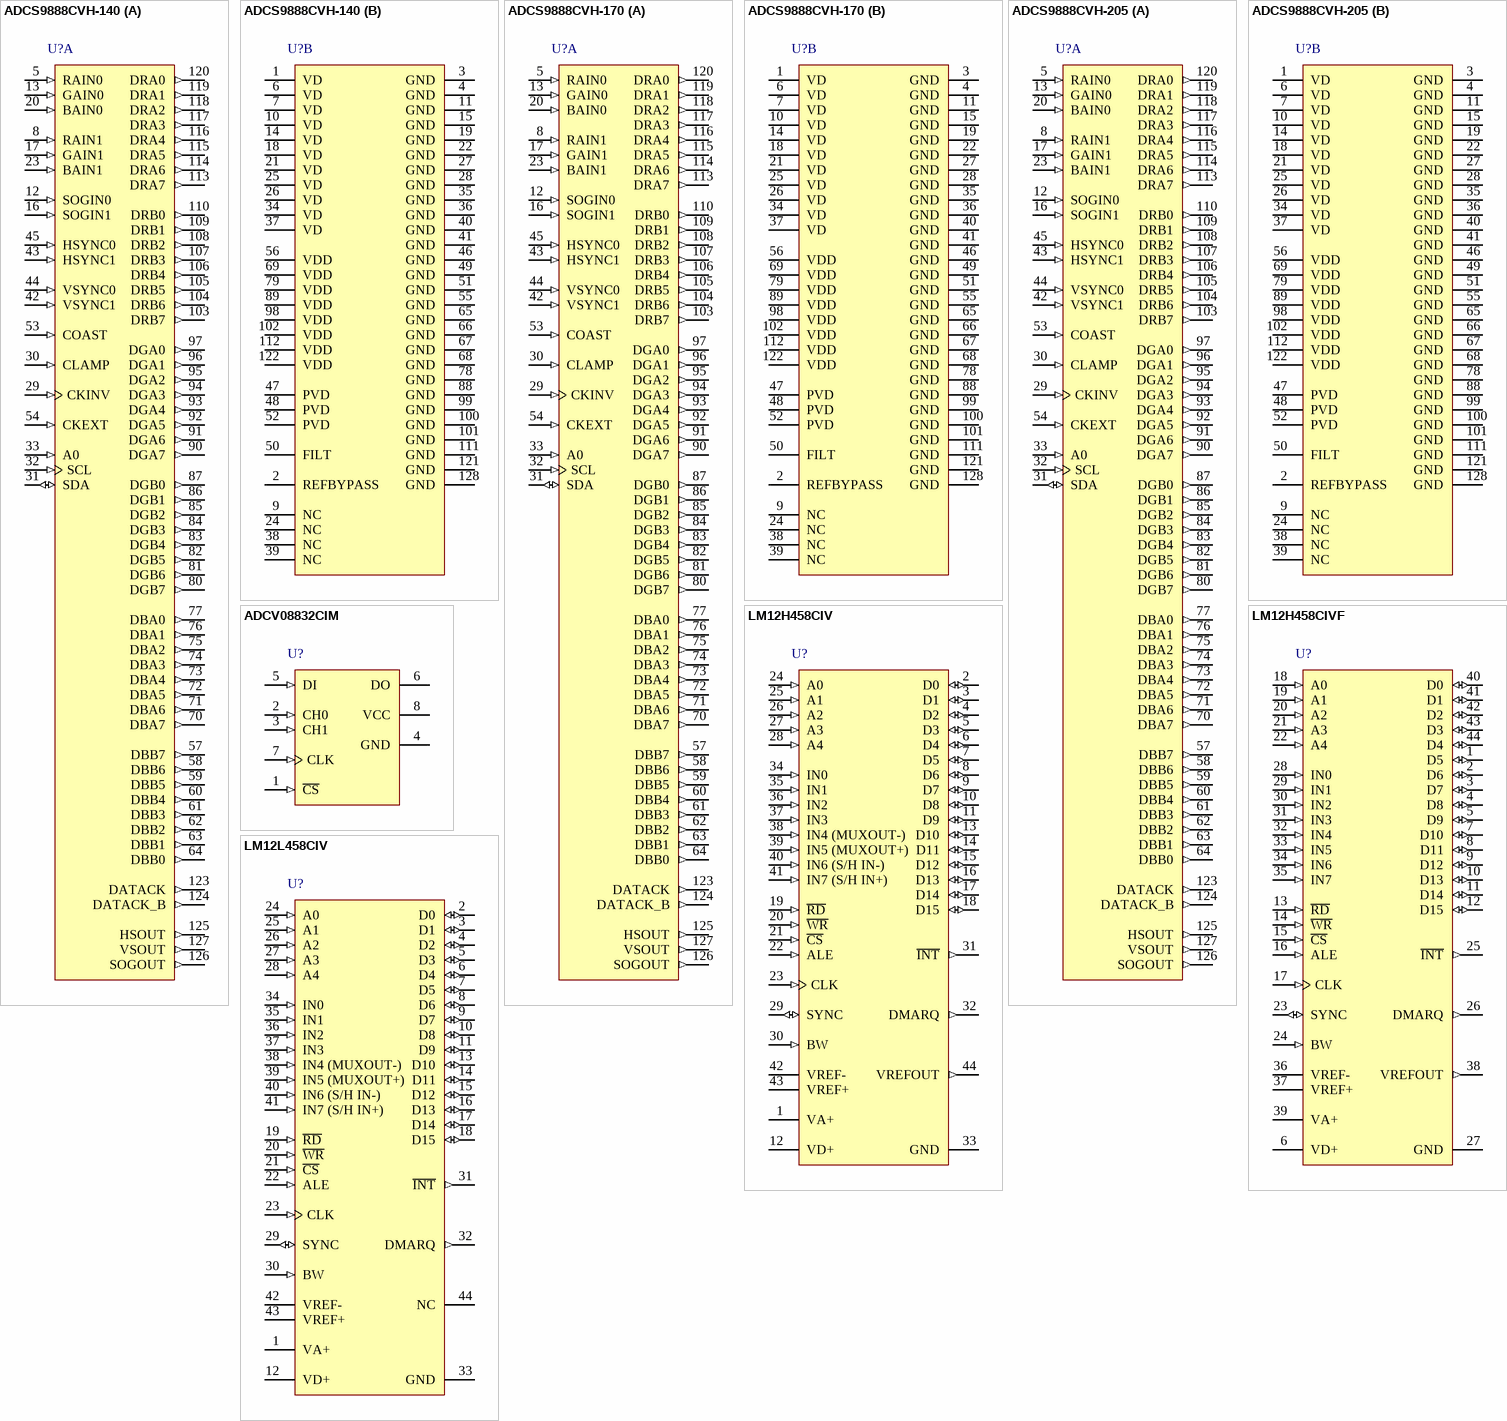
[diagram p16: symbols ADCS9888CVH-140 to LM12L458CIV]

## ADCS9888CVH-140
designator U?
205/170/140 MSPS Video Analog Front End; PartNumber: ADCS9888CVH-140; Manufacturer: National Semiconductor; CompType: ADC IC; PackageTopMarking: NSUZXYYTTE#*ADCS9888CVH*-140; Published: 4-Dec-2008; DatasheetVersion: Dec-2003; PackageVersion: revC, Jun-1998; PackageReference: VLA128A; Publisher: Altium Limited; PackageDescription: PQFP, (S), 14 x 20 x 2.7mm, 128 Lead; RoHS: Y; PinCount: 128; DigiKeyPartNumber: ADCS9888CVH-140-ND; ComponentLink1Description: ADCS9888 Datasheet; ComponentLink1URL: http://www.national.com/ds/AD/ADCS9888.pdf; ComponentLink2Description: ADCS9888 Web Page; ComponentLink2URL: http://www.national.com/pf/AD/ADCS9888.html; ComponentLink3Description: VLA128A Package Page; ComponentLink3URL: http://www.national.com/packaging/folders/vla128a.html
footprint VLA128A_N (Shrink QFP, 128-Leads, Body 20x14 mm, Pitch 0.5mm, IPC Medium Density)
footprint VLA128A_L (Shrink QFP, 128-Leads, Body 20x14 mm, Pitch 0.5mm, IPC High Density)
footprint VLA128A_M (Shrink QFP, 128-Leads, Body 20x14 mm, Pitch 0.5mm, IPC Low Density)
part A pins: 5 RAIN0 (in), 8 RAIN1 (in), 12 SOGIN0 (in), 13 GAIN0 (in), 16 SOGIN1 (in), 17 GAIN1 (in), 20 BAIN0 (in), 23 BAIN1 (in), 29 CKINV (in), 30 CLAMP (in), 31 SDA (io), 32 SCL (in), 33 A0 (in), 42 VSYNC1 (in), 43 HSYNC1 (in), 44 VSYNC0 (in), 45 HSYNC0 (in), 53 COAST (in), 54 CKEXT (in), 57 DBB7 (out), 58 DBB6 (out), 59 DBB5 (out), 60 DBB4 (out), 61 DBB3 (out), 62 DBB2 (out), 63 DBB1 (out), 64 DBB0 (out), 70 DBA7 (out), 71 DBA6 (out), 72 DBA5 (out), 73 DBA4 (out), 74 DBA3 (out), 75 DBA2 (out), 76 DBA1 (out), 77 DBA0 (out), 80 DGB7 (out), 81 DGB6 (out), 82 DGB5 (out), 83 DGB4 (out), 84 DGB3 (out), 85 DGB2 (out), 86 DGB1 (out), 87 DGB0 (out), 90 DGA7 (out), 91 DGA6 (out), 92 DGA5 (out), 93 DGA4 (out), 94 DGA3 (out), 95 DGA2 (out), 96 DGA1 (out), 97 DGA0 (out), 103 DRB7 (out), 104 DRB6 (out), 105 DRB5 (out), 106 DRB4 (out), 107 DRB3 (out), 108 DRB2 (out), 109 DRB1 (out), 110 DRB0 (out), 113 DRA7 (out), 114 DRA6 (out), 115 DRA5 (out), 116 DRA4 (out), 117 DRA3 (out), 118 DRA2 (out), 119 DRA1 (out), 120 DRA0 (out), 123 DATACK (out), 124 DATACK_B (out), 125 HSOUT (out), 126 SOGOUT (out), 127 VSOUT (out)
part B pins: 1 VD (power), 2 REFBYPASS, 3 GND (power), 4 GND (power), 6 VD (power), 7 VD (power), 9 NC, 10 VD (power), 11 GND (power), 14 VD (power), 15 GND (power), 18 VD (power), 19 GND (power), 21 VD (power), 22 GND (power), 24 NC, 25 VD (power), 26 VD (power), 27 GND (power), 28 GND (power), 34 VD (power), 35 GND (power), 36 GND (power), 37 VD (power), 38 NC, 39 NC, 40 GND (power), 41 GND (power), 46 GND (power), 47 PVD (power), 48 PVD (power), 49 GND (power), 50 FILT, 51 GND (power), 52 PVD (power), 55 GND (power), 56 VDD (power), 65 GND (power), 66 GND (power), 67 GND (power), 68 GND (power), 69 VDD (power), 78 GND (power), 79 VDD (power), 88 GND (power), 89 VDD (power), 98 VDD (power), 99 GND (power), 100 GND (power), 101 GND (power), 102 VDD (power), 111 GND (power), 112 VDD (power), 121 GND (power), 122 VDD (power), 128 GND (power)

## ADCS9888CVH-170
designator U?
205/170/140 MSPS Video Analog Front End; PartNumber: ADCS9888CVH-170; Manufacturer: National Semiconductor; CompType: ADC IC; PackageTopMarking: NSUZXYYTTE#*ADCS9888CVH*-170; Published: 4-Dec-2008; DatasheetVersion: Dec-2003; PackageVersion: revC, Jun-1998; PackageReference: VLA128A; Publisher: Altium Limited; PackageDescription: PQFP, (S), 14 x 20 x 2.7mm, 128 Lead; RoHS: O; PinCount: 128; DigiKeyPartNumber: ADCS9888CVH-170-ND; ComponentLink1Description: ADCS9888 Datasheet; ComponentLink1URL: http://www.national.com/ds/AD/ADCS9888.pdf; ComponentLink2Description: ADCS9888 Web Page; ComponentLink2URL: http://www.national.com/pf/AD/ADCS9888.html; ComponentLink3Description: VLA128A Package Page; ComponentLink3URL: http://www.national.com/packaging/folders/vla128a.html
footprint VLA128A_N (Shrink QFP, 128-Leads, Body 20x14 mm, Pitch 0.5mm, IPC Medium Density)
footprint VLA128A_L (Shrink QFP, 128-Leads, Body 20x14 mm, Pitch 0.5mm, IPC High Density)
footprint VLA128A_M (Shrink QFP, 128-Leads, Body 20x14 mm, Pitch 0.5mm, IPC Low Density)
part A pins: 5 RAIN0 (in), 8 RAIN1 (in), 12 SOGIN0 (in), 13 GAIN0 (in), 16 SOGIN1 (in), 17 GAIN1 (in), 20 BAIN0 (in), 23 BAIN1 (in), 29 CKINV (in), 30 CLAMP (in), 31 SDA (io), 32 SCL (in), 33 A0 (in), 42 VSYNC1 (in), 43 HSYNC1 (in), 44 VSYNC0 (in), 45 HSYNC0 (in), 53 COAST (in), 54 CKEXT (in), 57 DBB7 (out), 58 DBB6 (out), 59 DBB5 (out), 60 DBB4 (out), 61 DBB3 (out), 62 DBB2 (out), 63 DBB1 (out), 64 DBB0 (out), 70 DBA7 (out), 71 DBA6 (out), 72 DBA5 (out), 73 DBA4 (out), 74 DBA3 (out), 75 DBA2 (out), 76 DBA1 (out), 77 DBA0 (out), 80 DGB7 (out), 81 DGB6 (out), 82 DGB5 (out), 83 DGB4 (out), 84 DGB3 (out), 85 DGB2 (out), 86 DGB1 (out), 87 DGB0 (out), 90 DGA7 (out), 91 DGA6 (out), 92 DGA5 (out), 93 DGA4 (out), 94 DGA3 (out), 95 DGA2 (out), 96 DGA1 (out), 97 DGA0 (out), 103 DRB7 (out), 104 DRB6 (out), 105 DRB5 (out), 106 DRB4 (out), 107 DRB3 (out), 108 DRB2 (out), 109 DRB1 (out), 110 DRB0 (out), 113 DRA7 (out), 114 DRA6 (out), 115 DRA5 (out), 116 DRA4 (out), 117 DRA3 (out), 118 DRA2 (out), 119 DRA1 (out), 120 DRA0 (out), 123 DATACK (out), 124 DATACK_B (out), 125 HSOUT (out), 126 SOGOUT (out), 127 VSOUT (out)
part B pins: 1 VD (power), 2 REFBYPASS, 3 GND (power), 4 GND (power), 6 VD (power), 7 VD (power), 9 NC, 10 VD (power), 11 GND (power), 14 VD (power), 15 GND (power), 18 VD (power), 19 GND (power), 21 VD (power), 22 GND (power), 24 NC, 25 VD (power), 26 VD (power), 27 GND (power), 28 GND (power), 34 VD (power), 35 GND (power), 36 GND (power), 37 VD (power), 38 NC, 39 NC, 40 GND (power), 41 GND (power), 46 GND (power), 47 PVD (power), 48 PVD (power), 49 GND (power), 50 FILT, 51 GND (power), 52 PVD (power), 55 GND (power), 56 VDD (power), 65 GND (power), 66 GND (power), 67 GND (power), 68 GND (power), 69 VDD (power), 78 GND (power), 79 VDD (power), 88 GND (power), 89 VDD (power), 98 VDD (power), 99 GND (power), 100 GND (power), 101 GND (power), 102 VDD (power), 111 GND (power), 112 VDD (power), 121 GND (power), 122 VDD (power), 128 GND (power)

## ADCS9888CVH-205
designator U?
205/170/140 MSPS Video Analog Front End; PartNumber: ADCS9888CVH-205; Manufacturer: National Semiconductor; CompType: ADC IC; PackageTopMarking: NSUZXYYTTE#*ADCS9888CVH*-205; Published: 4-Dec-2008; DatasheetVersion: Dec-2003; PackageVersion: revC, Jun-1998; PackageReference: VLA128A; Publisher: Altium Limited; PackageDescription: PQFP, (S), 14 x 20 x 2.7mm, 128 Lead; RoHS: Y; PinCount: 128; DigiKeyPartNumber: ADCS9888CVH-205-ND; ComponentLink1Description: ADCS9888 Datasheet; ComponentLink1URL: http://www.national.com/ds/AD/ADCS9888.pdf; ComponentLink2Description: ADCS9888 Web Page; ComponentLink2URL: http://www.national.com/pf/AD/ADCS9888.html; ComponentLink3Description: VLA128A Package Page; ComponentLink3URL: http://www.national.com/packaging/folders/vla128a.html
footprint VLA128A_N (Shrink QFP, 128-Leads, Body 20x14 mm, Pitch 0.5mm, IPC Medium Density)
footprint VLA128A_L (Shrink QFP, 128-Leads, Body 20x14 mm, Pitch 0.5mm, IPC High Density)
footprint VLA128A_M (Shrink QFP, 128-Leads, Body 20x14 mm, Pitch 0.5mm, IPC Low Density)
part A pins: 5 RAIN0 (in), 8 RAIN1 (in), 12 SOGIN0 (in), 13 GAIN0 (in), 16 SOGIN1 (in), 17 GAIN1 (in), 20 BAIN0 (in), 23 BAIN1 (in), 29 CKINV (in), 30 CLAMP (in), 31 SDA (io), 32 SCL (in), 33 A0 (in), 42 VSYNC1 (in), 43 HSYNC1 (in), 44 VSYNC0 (in), 45 HSYNC0 (in), 53 COAST (in), 54 CKEXT (in), 57 DBB7 (out), 58 DBB6 (out), 59 DBB5 (out), 60 DBB4 (out), 61 DBB3 (out), 62 DBB2 (out), 63 DBB1 (out), 64 DBB0 (out), 70 DBA7 (out), 71 DBA6 (out), 72 DBA5 (out), 73 DBA4 (out), 74 DBA3 (out), 75 DBA2 (out), 76 DBA1 (out), 77 DBA0 (out), 80 DGB7 (out), 81 DGB6 (out), 82 DGB5 (out), 83 DGB4 (out), 84 DGB3 (out), 85 DGB2 (out), 86 DGB1 (out), 87 DGB0 (out), 90 DGA7 (out), 91 DGA6 (out), 92 DGA5 (out), 93 DGA4 (out), 94 DGA3 (out), 95 DGA2 (out), 96 DGA1 (out), 97 DGA0 (out), 103 DRB7 (out), 104 DRB6 (out), 105 DRB5 (out), 106 DRB4 (out), 107 DRB3 (out), 108 DRB2 (out), 109 DRB1 (out), 110 DRB0 (out), 113 DRA7 (out), 114 DRA6 (out), 115 DRA5 (out), 116 DRA4 (out), 117 DRA3 (out), 118 DRA2 (out), 119 DRA1 (out), 120 DRA0 (out), 123 DATACK (out), 124 DATACK_B (out), 125 HSOUT (out), 126 SOGOUT (out), 127 VSOUT (out)
part B pins: 1 VD (power), 2 REFBYPASS, 3 GND (power), 4 GND (power), 6 VD (power), 7 VD (power), 9 NC, 10 VD (power), 11 GND (power), 14 VD (power), 15 GND (power), 18 VD (power), 19 GND (power), 21 VD (power), 22 GND (power), 24 NC, 25 VD (power), 26 VD (power), 27 GND (power), 28 GND (power), 34 VD (power), 35 GND (power), 36 GND (power), 37 VD (power), 38 NC, 39 NC, 40 GND (power), 41 GND (power), 46 GND (power), 47 PVD (power), 48 PVD (power), 49 GND (power), 50 FILT, 51 GND (power), 52 PVD (power), 55 GND (power), 56 VDD (power), 65 GND (power), 66 GND (power), 67 GND (power), 68 GND (power), 69 VDD (power), 78 GND (power), 79 VDD (power), 88 GND (power), 89 VDD (power), 98 VDD (power), 99 GND (power), 100 GND (power), 101 GND (power), 102 VDD (power), 111 GND (power), 112 VDD (power), 121 GND (power), 122 VDD (power), 128 GND (power)

## ADCV08832CIM
designator U?
Low Voltage, 8-Bit Serial I/O CMOS A/D Converter With Sample/Hold; PartNumber: ADCV08832CIM; Manufacturer: National Semiconductor; CompType: ADC IC; PackageTopMarking: NSZXTT*ADCV0*8832I; Published: 4-Dec-2008; DatasheetVersion: Jan-2001; PackageVersion: revL, Sep-2006; PackageReference: M08A; Publisher: Altium Limited; PackageDescription: SOIC Narrow, 4.9 x 3.9 x 1.45mm, 8 Lead, 1.27mm Pitch; RoHS: O; PinCount: 8; DigiKeyPartNumber: ADCV08832CIM-ND; Code_JEDEC: MS-012-AA; Code_IPC: SOIC127P600-8; ComponentLink1Description: ADCV08832 Datasheet; ComponentLink1URL: http://www.national.com/ds/AD/ADCV08832.pdf; ComponentLink2Description: ADCV08832 Web Page; ComponentLink2URL: http://www.national.com/pf/AD/ADCV08832.html; ComponentLink3Description: M08A Package Page; ComponentLink3URL: http://www.national.com/packaging/folders/m08a.html
footprint M08A_N (SOIC, 8-Leads, Body 4.9x3.9mm, Pitch 1.27mm, IPC Medium Density)
footprint M08A_L (SOIC, 8-Leads, Body 4.9x3.9mm, Pitch 1.27mm, IPC High Density)
footprint M08A_M (SOIC, 8-Leads, Body 4.9x3.9mm, Pitch 1.27mm, IPC Low Density)
pins: 1 ~{CS} (in), 2 CH0 (in), 3 CH1 (in), 4 GND (power), 5 DI (in), 6 DO (hiz), 7 CLK (in), 8 VCC (power)

## LM12H458CIV
designator U?
12-Bit Plus Sign Data Acquisition System with Self-Calibration; PartNumber: LM12H458CIV; Manufacturer: National Semiconductor; CompType: ADC IC; PackageTopMarking: NSUZXYYTTE#*LM12H458CIV; PowerWise: N; Published: 29-May-2009; DatasheetVersion: Feb-2006; PackageVersion: revK, Dec-1993; PackageReference: V44A; Publisher: Altium Limited; PackageDescription: Plastic Chip Carrier, Sq, .050in Pitch, 44 Lead; RoHS: O; PinCount: 44; DigiKeyPartNumber: LM12H458CIV-ND; Code_IPC: PLCC-44; ComponentLink1Description: LM12H458 Datasheet; ComponentLink1URL: http://www.national.com/ds/LM/LM12H458.pdf; ComponentLink2Description: LM12H458 Web Page; ComponentLink2URL: http://www.national.com/pf/LM/LM12H458.html; ComponentLink3Description: V44A Package Page; ComponentLink3URL: http://www.national.com/packaging/folders/v44a.html
footprint V44A_N (Leaded Chip Carrier, 44-Leads, Body 16.6x16.6mm, Pitch 1.27mm, IPC Medium Density)
footprint V44A_L (Leaded Chip Carrier, 44-Leads, Body 16.6x16.6mm, Pitch 1.27mm, IPC High Density)
footprint V44A_M (Leaded Chip Carrier, 44-Leads, Body 16.6x16.6mm, Pitch 1.27mm, IPC Low Density)
pins: 1 VA+ (power), 2 D0 (io), 3 D1 (io), 4 D2 (io), 5 D3 (io), 6 D4 (io), 7 D5 (io), 8 D6 (io), 9 D7 (io), 10 D8 (io), 11 D9 (io), 12 VD+ (power), 13 D10 (io), 14 D11 (io), 15 D12 (io), 16 D13 (io), 17 D14 (io), 18 D15 (io), 19 ~{RD} (in), 20 ~{WR} (in), 21 ~{CS} (in), 22 ALE (in), 23 CLK (in), 24 A0 (in), 25 A1 (in), 26 A2 (in), 27 A3 (in), 28 A4 (in), 29 SYNC (io), 30 BW (in), 31 ~{INT} (out), 32 DMARQ (out), 33 GND (power), 34 IN0 (in), 35 IN1 (in), 36 IN2 (in), 37 IN3 (in), 38 IN4 (MUXOUT-) (in), 39 IN5 (MUXOUT+) (in), 40 IN6 (S/H IN-) (in), 41 IN7 (S/H IN+) (in), 42 VREF- (power), 43 VREF+ (power), 44 VREFOUT (out)

## LM12H458CIVF
designator U?
12-Bit Plus Sign Data Acquisition System with Self-Calibration; PartNumber: LM12H458CIVF; Manufacturer: National Semiconductor; CompType: ADC IC; PackageTopMarking: NSUZXYYTT*LM12H458*CIVF*DIE RUN# =; PowerWise: N; Published: 29-May-2009; DatasheetVersion: Feb-2006; PackageVersion: revE, Feb-2003; PackageReference: VGZ44A; Publisher: Altium Limited; PackageDescription: PQFP, Jedec Metric, (S), 10 x 10 x 2.0mm Body, 44 Lead; RoHS: O; PinCount: 44; DigiKeyPartNumber: LM12H458CIVF-ND; Code_JEDEC: MO-108-AA-1; Code_IPC: QFP80P1320X1320-44; ComponentLink1Description: LM12H458 Datasheet; ComponentLink1URL: http://www.national.com/ds/LM/LM12H458.pdf; ComponentLink2Description: LM12H458 Web Page; ComponentLink2URL: http://www.national.com/pf/LM/LM12H458.html; ComponentLink3Description: VGZ44A Package Page; ComponentLink3URL: http://www.national.com/packaging/folders/vgz44a.html
footprint VGZ44A_N (QFP, 44-Leads, Body 10x10mm, Pitch 0.8mm, IPC Medium Density)
footprint VGZ44A_L (QFP, 44-Leads, Body 10x10mm, Pitch 0.8mm, IPC High Density)
footprint VGZ44A_M (QFP, 44-Leads, Body 10x10mm, Pitch 0.8mm, IPC Low Density)
pins: 1 D5 (io), 2 D6 (io), 3 D7 (io), 4 D8 (io), 5 D9 (io), 6 VD+ (power), 7 D10 (io), 8 D11 (io), 9 D12 (io), 10 D13 (io), 11 D14 (io), 12 D15 (io), 13 ~{RD} (in), 14 ~{WR} (in), 15 ~{CS} (in), 16 ALE (in), 17 CLK (in), 18 A0 (in), 19 A1 (in), 20 A2 (in), 21 A3 (in), 22 A4 (in), 23 SYNC (io), 24 BW (in), 25 ~{INT} (out), 26 DMARQ (out), 27 GND (power), 28 IN0 (in), 29 IN1 (in), 30 IN2 (in), 31 IN3 (in), 32 IN4 (in), 33 IN5 (in), 34 IN6 (in), 35 IN7 (in), 36 VREF- (power), 37 VREF+ (power), 38 VREFOUT (out), 39 VA+ (power), 40 D0 (io), 41 D1 (io), 42 D2 (io), 43 D3 (io), 44 D4 (io)

## LM12L458CIV
designator U?
12-Bit Plus Sign Data Acquisition System with Self-Calibration; PartNumber: LM12L458CIV; Manufacturer: National Semiconductor; CompType: ADC IC; PackageTopMarking: NSUZXYYTTE#*LM12L458CIV; PowerWise: N; Published: 29-May-2009; DatasheetVersion: Feb-2006; PackageVersion: revK, Dec-1993; PackageReference: V44A; Publisher: Altium Limited; PackageDescription: Plastic Chip Carrier, Sq, .050in Pitch, 44 Lead; RoHS: O; PinCount: 44; DigiKeyPartNumber: LM12L458CIV-ND; Code_IPC: PLCC-44; ComponentLink1Description: LM12L458 Datasheet; ComponentLink1URL: http://www.national.com/ds/LM/LM12L458.pdf; ComponentLink2Description: LM12L458 Web Page; ComponentLink2URL: http://www.national.com/pf/LM/LM12L458.html; ComponentLink3Description: V44A Package Page; ComponentLink3URL: http://www.national.com/packaging/folders/v44a.html
footprint V44A_N (Leaded Chip Carrier, 44-Leads, Body 16.6x16.6mm, Pitch 1.27mm, IPC Medium Density)
footprint V44A_L (Leaded Chip Carrier, 44-Leads, Body 16.6x16.6mm, Pitch 1.27mm, IPC High Density)
footprint V44A_M (Leaded Chip Carrier, 44-Leads, Body 16.6x16.6mm, Pitch 1.27mm, IPC Low Density)
pins: 1 VA+ (power), 2 D0 (io), 3 D1 (io), 4 D2 (io), 5 D3 (io), 6 D4 (io), 7 D5 (io), 8 D6 (io), 9 D7 (io), 10 D8 (io), 11 D9 (io), 12 VD+ (power), 13 D10 (io), 14 D11 (io), 15 D12 (io), 16 D13 (io), 17 D14 (io), 18 D15 (io), 19 ~{RD} (in), 20 ~{WR} (in), 21 ~{CS} (in), 22 ALE (in), 23 CLK (in), 24 A0 (in), 25 A1 (in), 26 A2 (in), 27 A3 (in), 28 A4 (in), 29 SYNC (io), 30 BW (in), 31 ~{INT} (out), 32 DMARQ (out), 33 GND (power), 34 IN0 (in), 35 IN1 (in), 36 IN2 (in), 37 IN3 (in), 38 IN4 (MUXOUT-) (in), 39 IN5 (MUXOUT+) (in), 40 IN6 (S/H IN-) (in), 41 IN7 (S/H IN+) (in), 42 VREF- (power), 43 VREF+ (power), 44 NC

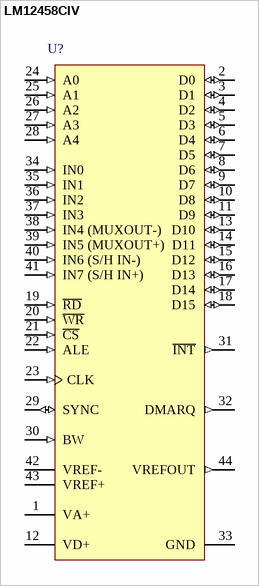
[diagram p17: symbol LM12458CIV]

## LM12458CIV
designator U?
12-Bit Plus Sign Data Acquisition System with Self-Calibration; PartNumber: LM12458CIV; Manufacturer: National Semiconductor; CompType: ADC IC; PackageTopMarking: NSUZXYYTTE#*LM12458CIV; PowerWise: N; Published: 29-May-2009; DatasheetVersion: Feb-2006; PackageVersion: revK, Dec-1993; PackageReference: V44A; Publisher: Altium Limited; PackageDescription: Plastic Chip Carrier, Sq, .050in Pitch, 44 Lead; RoHS: O; PinCount: 44; DigiKeyPartNumber: LM12458CIV-ND; Code_IPC: PLCC-44; ComponentLink1Description: LM12458 Datasheet; ComponentLink1URL: http://www.national.com/ds/LM/LM12458.pdf; ComponentLink2Description: LM12458 Web Page; ComponentLink2URL: http://www.national.com/pf/LM/LM12458.html; ComponentLink3Description: V44A Package Page; ComponentLink3URL: http://www.national.com/packaging/folders/v44a.html
footprint V44A_N (Leaded Chip Carrier, 44-Leads, Body 16.6x16.6mm, Pitch 1.27mm, IPC Medium Density)
footprint V44A_L (Leaded Chip Carrier, 44-Leads, Body 16.6x16.6mm, Pitch 1.27mm, IPC High Density)
footprint V44A_M (Leaded Chip Carrier, 44-Leads, Body 16.6x16.6mm, Pitch 1.27mm, IPC Low Density)
pins: 1 VA+ (power), 2 D0 (io), 3 D1 (io), 4 D2 (io), 5 D3 (io), 6 D4 (io), 7 D5 (io), 8 D6 (io), 9 D7 (io), 10 D8 (io), 11 D9 (io), 12 VD+ (power), 13 D10 (io), 14 D11 (io), 15 D12 (io), 16 D13 (io), 17 D14 (io), 18 D15 (io), 19 ~{RD} (in), 20 ~{WR} (in), 21 ~{CS} (in), 22 ALE (in), 23 CLK (in), 24 A0 (in), 25 A1 (in), 26 A2 (in), 27 A3 (in), 28 A4 (in), 29 SYNC (io), 30 BW (in), 31 ~{INT} (out), 32 DMARQ (out), 33 GND (power), 34 IN0 (in), 35 IN1 (in), 36 IN2 (in), 37 IN3 (in), 38 IN4 (MUXOUT-) (in), 39 IN5 (MUXOUT+) (in), 40 IN6 (S/H IN-) (in), 41 IN7 (S/H IN+) (in), 42 VREF- (power), 43 VREF+ (power), 44 VREFOUT (out)